# Altium footprint library 我的元件库03.PcbLib: 40 footprints (part 2 of 3)
Each footprint in its own frame and in the unit in brackets; x right, y up, seen from the top. Pads: shape width x height; smd on the part's side, far side on the other; paste and mask are expansions set on the pad; w line width, h text height; cw(c..) or ccw(c..) is an arc to the next point about the centre after c.
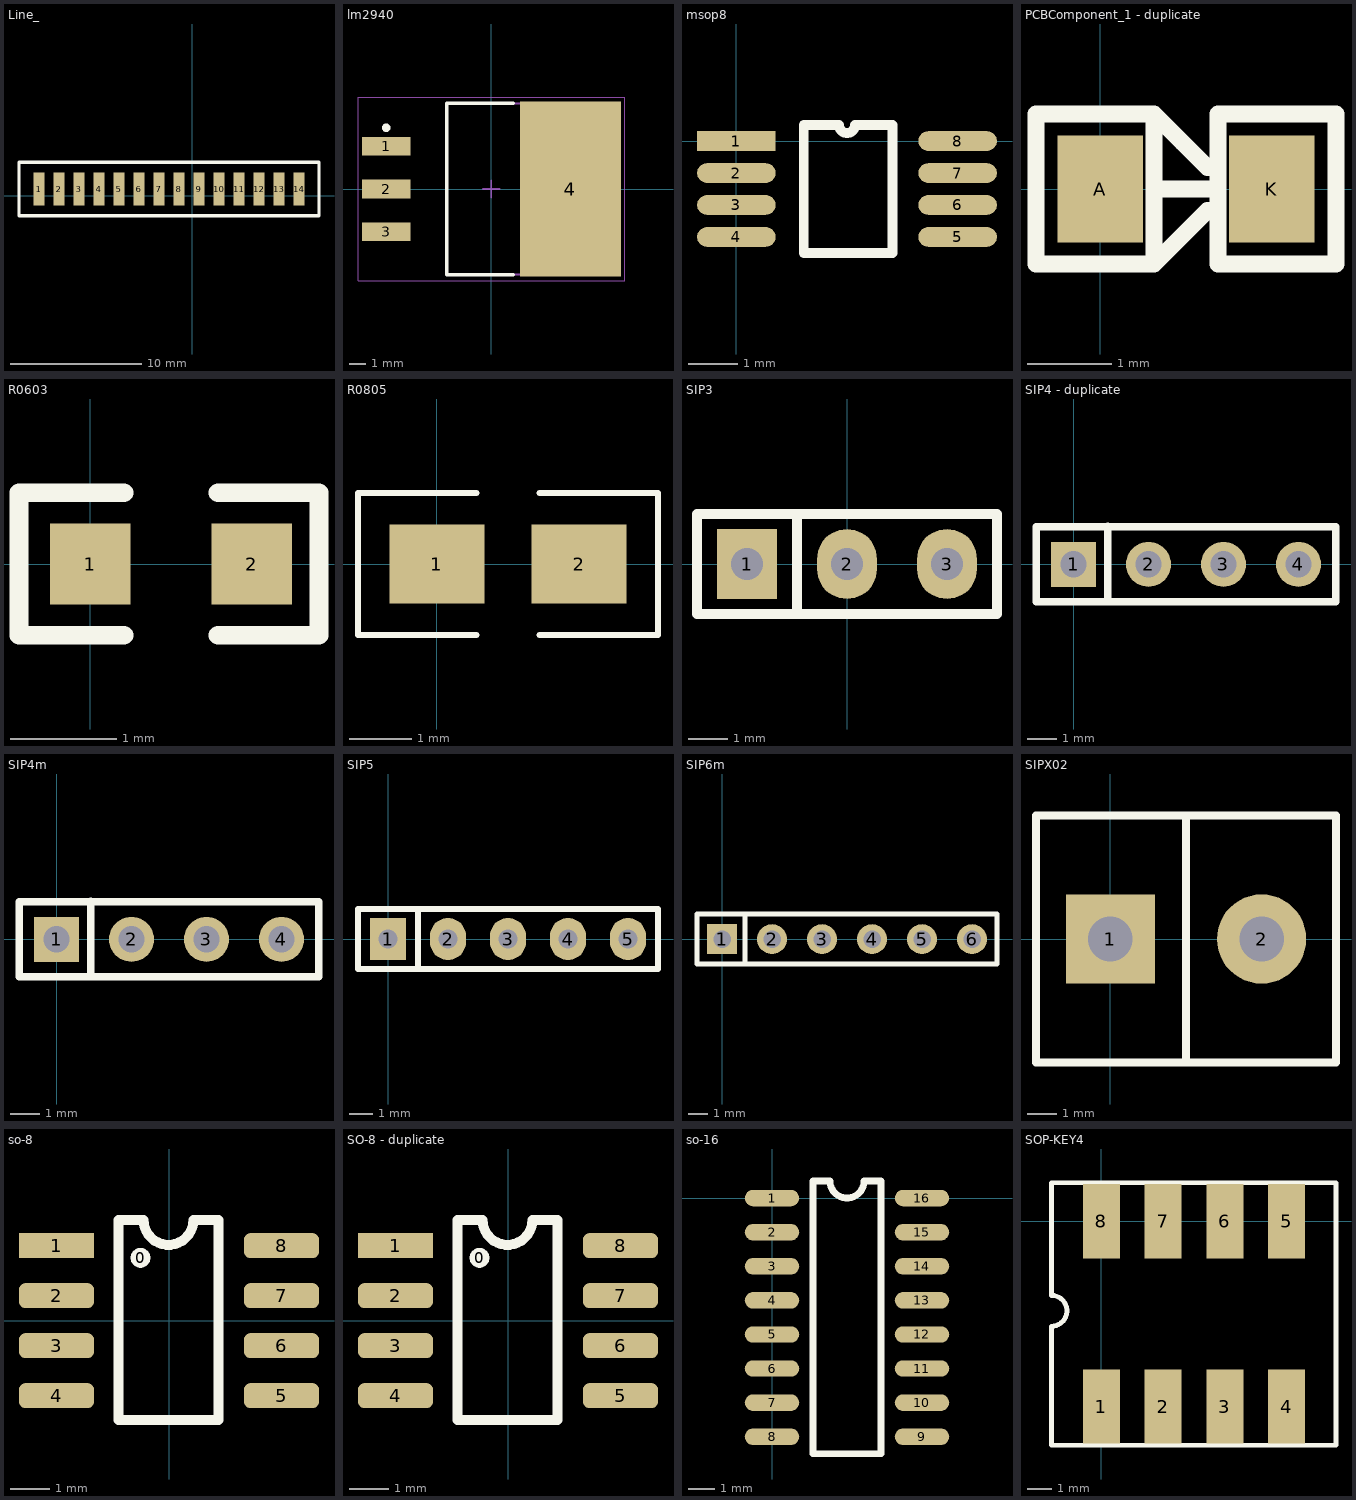
[diagram p1: the footprints below, top view; thin cyan lines are the x and y axes]

## Line_ [mil]
height 43.31
pads (14):
  rect 33x100 smd: 1(-460,20) 2(-400,20) 3(-340,20) 4(-280,20) 5(-220,20) 6(-160,20) 7(-100,20) 8(-40,20) 9(20,20) 10(80,20) 11(140,20) 12(200,20) 13(260,20) 14(320,20)
Top Overlay:
  lines w10: -520,-60 380,-60 380,100 -520,100 -520,-60

## lm2940 [mm] "D2-PAK, 4-Pads, Body 7.42x8.44mm (max), IPC Medium Density"
height 4.57
pads (4):
  rect 2.9x1.1 smd: 1(-6.25,2.54) 2(-6.25,0) 3(-6.25,-2.54)
  rect 6x10.4 smd: 4(4.7,0)
Top Overlay:
  circle w0.25: c-6.25,3.64 r0.125
  lines w0.2: 1.3,-5.1 -2.65,-5.1 -2.65,5.1 1.3,5.1
Mechanical 13:
  lines w0.1: -2.65,-5.075 5.99,-5.075 5.99,5.075 -2.65,5.075 -2.65,-5.075
Mechanical 15:
  lines w0.05: -7.925,-5.45 7.925,-5.45 7.925,5.45 -7.925,5.45 -7.925,-5.45
  lines w0.1: -0.5,0 0.5,0 ; 0,-0.5 0,0.5
3D body: height 4.57, standoff 0.76, extent -2.65,-5.075 5.99,5.075

## msop8 [mm]
height 1.1
pads (8):
  rect 1.6x0.4 smd: 1(0,0)
  oval 1.6x0.4 smd: 2(0,-0.65) 3(0,-1.3) 4(0,-1.95) 5(4.5,-1.95) 6(4.5,-1.3) 7(4.5,-0.65) 8(4.5,0)
Top Overlay:
  lines w0.2: 1.372,-2.275 1.372,0.325 2.088,0.325 ccw(c2.25,0.325) 2.412,0.325 3.175,0.325 3.175,-2.275 1.372,-2.275
3D body: height 1.05, standoff -0.05, extent -0.208,-2.515 4.729,0.585

## PCBComponent_1 - duplicate [mil]
pads (2):
  rect 40x50 smd: A(0,0) K(80,0)
Top Overlay:
  lines w7.87: 25,0 50,0 ; 31.09,28.91 31.52,28.48 ; 38.07,21.93 38.19,21.81 ; 50,-10 25,-35 ; 50,10 25,35 ; 55,-10 55,5 55,0 ; 25,-35 25,35 ; 25,-35 -30,-35 -30,35 25,35 ; 55,-35 55,35 110,35 110,-35 55,-35
3D body: height 33.45, standoff 0.23, extent -0.2,-16.84 81,18.84

## R0603 [mil]
height 43.31
pads (2):
  rect 30x30 smd: 1(0,0) 2(60,0)
Top Overlay:
  lines w7: -26.5,26.5 -26.5,-26.5 12.5,-26.5 ; -25,26.5 12.5,26.5 ; 47.5,-26.5 85,-26.5 85,26.5 47.5,26.5
3D body: height 17.72, standoff 0, extent -1,-16 61.99,15.5

## R0805 [mil]
height 43.31
pads (2):
  rect 60x50 smd: 1(0,0) 2(90,0)
Top Overlay:
  lines w3.94: 25,-45 -50,-45 -50,45 25,45 ; 65,-45 140,-45 140,45 65,45
3D body: height 21.65, standoff 0, extent 6,-25 84.74,24.61

## SIP3 [mil]
height 43.31
pads (3):
  rect 60x70 hole 32: 1(-100,0)
  oval 60x70 hole 32: 2(0,0) 3(100,0)
Top Overlay:
  lines w10: -50,-50 -50,50 ; -150,-50 150,-50 150,50 -150,50 -150,-50

## SIP4 - duplicate [mil]
height 43.31
pads (4):
  rect 60x60 hole 35: 1(0,0)
  round 60 hole 35: 2(100,0) 3(200,0) 4(300,0)
Top Overlay:
  lines w10: 45.67,-49.21 45.67,50.79 ; -50,-50 -50,50 350,50 350,-50 -50,-50
3D body: height 336.22, standoff -118.11, extent -48,-47.03 352,51

## SIP4m [mil]
height 43.31
pads (4):
  rect 60x60 hole 35: 1(0,0)
  round 60 hole 35: 2(100,0) 3(200,0) 4(300,0)
Top Overlay:
  lines w10: 45.67,-49.21 45.67,50.79 ; -50,-50 350,-50 350,50 -50,50 -50,-50
3D body: height 335, standoff -117.76, extent -57.88,-48 357.87,50.42

## SIP5 [mil]
height 43.31
pads (5):
  rect 60x70 hole 32: 1(0,0)
  oval 60x70 hole 32: 2(100,0) 3(200,0) 4(300,0) 5(400,0)
Top Overlay:
  lines w10: 50,-50 50,50 ; -50,-50 -50,50 450,50 450,-50 -50,-50

## SIP6m [mil]
height 43.31
pads (6):
  rect 60x60 hole 35: 1(0,0)
  round 60 hole 35: 2(100,0) 3(200,0) 4(300,0) 5(400,0) 6(500,0)
Top Overlay:
  lines w10: 45.67,-49.21 45.67,50.79 ; -50,-50 550,-50 550,50 -50,50 -50,-50
3D body: height 335, standoff -117.76, extent 242.13,-49.21 557.88,49.21
3D body: height 335, standoff -117.76, extent -57.87,-49.21 257.88,49.22

## SIPX02 [mm]
height 1.1
pads (2):
  rect 3x3 hole 1.5: 1(0,0)
  round 3 hole 1.5: 2(5.08,0)
Top Overlay:
  lines w0.254: 2.54,-4.15 2.54,4.15 ; -2.5,-4.15 7.58,-4.15 7.58,4.15 -2.5,4.15 -2.5,-4.15

## so-8 [mil]
height 43.31
pads (9):
  round 20 on Top Overlay: 0(-28.5,62.8)
  rect 75x25 smd: 1(-112.5,75)
  rrect50% 75x25 smd: 2(-112.5,25) 3(-112.5,-25) 4(-112.5,-75) 5(112.5,-75) 6(112.5,-25) 7(112.5,25) 8(112.5,75)
Top Overlay:
  lines w10: -28.5,100.8 -50.5,100.8 -50.5,-99.2 49.5,-99.2 49.5,100.8 24.5,100.8 cw(c-0.5,100.8) -25.5,100.8
3D body: height -15, standoff -81.93, extent -118.11,-96.45 118.11,96.46

## SO-8 - duplicate [mil]
height 43.31
pads (9):
  round 20 on Top Overlay: 0(-28.5,62.8)
  rect 75x25 smd: 1(-112.5,75)
  rrect50% 75x25 smd: 2(-112.5,25) 3(-112.5,-25) 4(-112.5,-75) 5(112.5,-75) 6(112.5,-25) 7(112.5,25) 8(112.5,75)
Top Overlay:
  lines w10: -28.5,100.8 -50.5,100.8 -50.5,-99.2 49.5,-99.2 49.5,100.8 24.5,100.8 cw(c-0.5,100.8) -25.5,100.8
3D body: height -15, standoff -81.93, extent -118.11,-96.45 118.11,96.46

## so-16 [mil]
height 43.31
pads (16):
  oval 80x24 smd: 1(0,0) 2(0,-50) 3(0,-100) 4(0,-150) 5(0,-200) 6(0,-250) 7(0,-300) 8(0,-350) 9(220,-350) 10(220,-300) 11(220,-250) 12(220,-200) 13(220,-150) 14(220,-100) 15(220,-50) 16(220,0)
Top Overlay:
  lines w10: 60,-375 160,-375 160,25 135,25 cw(c110,25) 85,25 60,25 60,-375

## SOP-KEY4 [mil]
height 43.31
pads (8):
  rect 60x120 smd: 1(0,-300) 2(100,-300) 3(200,-300) 4(300,-300) 5(300,0) 6(200,0) 7(100,0) 8(0,0)
Top Overlay:
  lines w7.87: -80.71,-120.08 cw(c-80.71,-145.08) -80.71,-170.08 -80.71,-362.6 380,-362.6 380,62.21 -80.71,62.21 -80.71,-118.9
3D body: height 296, standoff -101, extent -76,-340 374,40